# EAGLE library part E75-2G4M20S-SOCKET (library E75-2G4M20S)
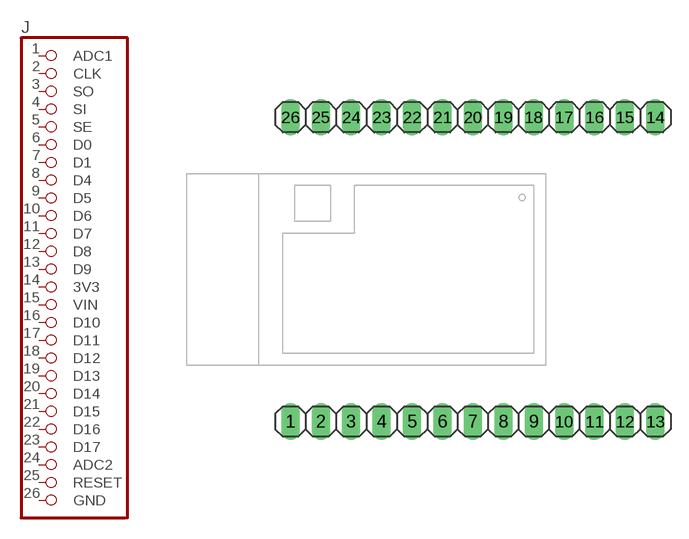
[diagram p1: symbol with the pads of E75-2G4M20S-SOCKET; footprint E75-2G4M20S-SOCKET]

Designator prefix J

## E75-2G4M20S-SOCKET  [E75-2G4M20S-SOCKET]
1  ADC1  pas
2  CLK  pas
3  SO  pas
4  SI  pas
5  SE  pas
6  D0  pas
7  D1  pas
8  D4  pas
9  D5  pas
10  D6  pas
11  D7  pas
12  D8  pas
13  D9  pas
14  3V3  pas
15  VIN  pas
16  D10  pas
17  D11  pas
18  D12  pas
19  D13  pas
20  D14  pas
21  D15  pas
22  D16  pas
23  D17  pas
24  ADC2  pas
25  RESET  pas
26  GND  pas

## Footprint E75-2G4M20S-SOCKET (pad centres in mm)
drill 1.016 long: 1 -15.24,-12.7; 2 -12.7,-12.7; 3 -10.16,-12.7; 4 -7.62,-12.7; 5 -5.08,-12.7; 6 -2.54,-12.7; 7 0,-12.7; 8 2.54,-12.7; 9 5.08,-12.7; 10 7.62,-12.7; 11 10.16,-12.7; 12 12.7,-12.7; 13 15.24,-12.7; 14 15.24,12.7; 15 12.7,12.7; 16 10.16,12.7; 17 7.62,12.7; 18 5.08,12.7; 19 2.54,12.7; 20 0,12.7; 21 -2.54,12.7; 22 -5.08,12.7; 23 -7.62,12.7; 24 -10.16,12.7; 25 -12.7,12.7; 26 -15.24,12.7